# Altium footprint library 盛群杯.PcbLib: 3 footprints
Each footprint in its own frame and in the unit in brackets; x right, y up, seen from the top. Pads: shape width x height; smd on the part's side, far side on the other; paste and mask are expansions set on the pad; w line width, h text height; cw(c..) or ccw(c..) is an arc to the next point about the centre after c.
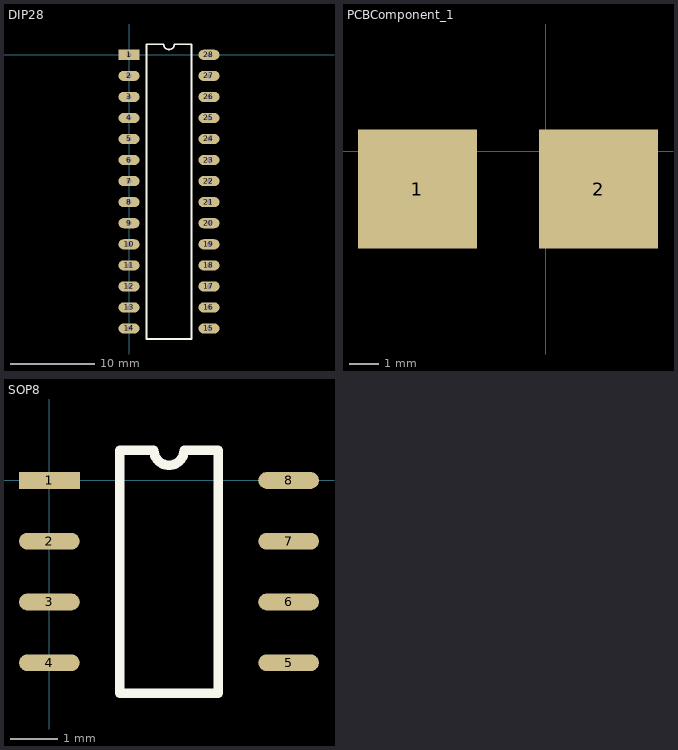
[diagram p0: the footprints below, top view; thin cyan lines are the x and y axes]

## DIP28 [mm]
pads (28):
  rect 2.5x1.2 hole 0.6: 1(0,0)
  oval 2.5x1.2 hole 0.6: 2(0,-2.5) 3(0,-5) 4(0,-7.5) 5(0,-10) 6(0,-12.5) 7(0,-15) 8(0,-17.5) 9(0,-20) 10(0,-22.5) 11(0,-25) 12(0,-27.5) 13(0,-30) 14(0,-32.5) 15(9.5,-32.5) 16(9.5,-30) 17(9.5,-27.5) 18(9.5,-25) 19(9.5,-22.5) 20(9.5,-20) 21(9.5,-17.5) 22(9.5,-15) 23(9.5,-12.5) 24(9.5,-10) 25(9.5,-7.5) 26(9.5,-5) 27(9.5,-2.5) 28(9.5,0)
Top Overlay:
  lines w0.2: 2.085,-33.75 2.085,1.25 4.125,1.25 ccw(c4.75,1.25) 5.375,1.25 7.415,1.25 7.415,-33.75 2.085,-33.75

## PCBComponent_1 [mm]
pads (2):
  rect 4x4 smd mask+0: 1(-4.318,-1.27) 2(1.778,-1.27)

## SOP8 [mm]
pads (8):
  rect 1.27x0.35 smd: 1(0,0)
  oval 1.27x0.35 smd: 2(0,-1.27) 3(0,-2.54) 4(0,-3.81) 5(5,-3.81) 6(5,-2.54) 7(5,-1.27) 8(5,0)
Top Overlay:
  lines w0.2: 1.47,-4.445 1.47,0.635 2.183,0.635 ccw(c2.5,0.635) 2.818,0.635 3.53,0.635 3.53,-4.445 1.47,-4.445